# Altium footprint library ESP-12E-Blue.PcbLib: 1 footprints
Each footprint in its own frame and in the unit in brackets; x right, y up, seen from the top. Pads: shape width x height; smd on the part's side, far side on the other; paste and mask are expansions set on the pad; w line width, h text height; cw(c..) or ccw(c..) is an arc to the next point about the centre after c.
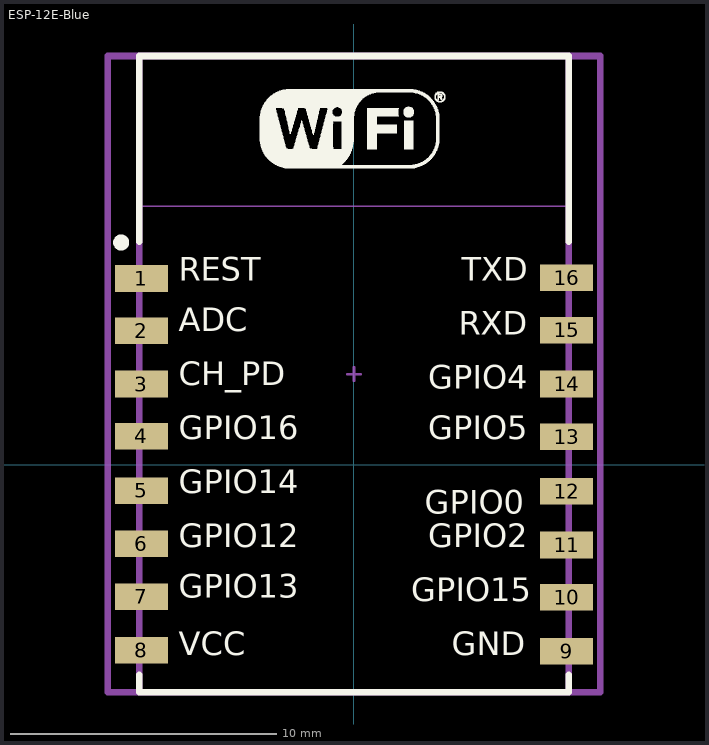
[diagram p0: the footprint, top view; thin cyan lines are the x and y axes]

## ESP-12E-Blue [mm] "ESP-12 Wi-Fi Module by AI-Thinker"
height 3.2
pads (16):
  rect 2x1 smd: 1(-8,7) 2(-8,5.03) 3(-8,3.03) 4(-8,1.06) 5(-8,-0.98) 6(-8,-2.99) 7(-8,-4.98) 8(-8,-6.99) 9(8,-7.03) 10(8,-4.99) 11(8,-3.03) 12(8,-1.01) 13(8,1.05) 14(8,3.03) 15(8,5.05) 16(8,7.03)
Top Overlay:
  drawing of 1267 lines, arcs and shapes, not listed
  text "GND" at 3.684,-7.478 h1.5
  text "GPIO15" at 2.16,-5.446 h1.5
  text "GPIO2" at 2.795,-3.414 h1.5
  text "GPIO0" at 2.667,-2.159 h1.5
  text "GPIO5" at 2.795,0.65 h1.5
  text "GPIO4" at 2.795,2.555 h1.5
  text "RXD" at 3.938,4.587 h1.5
  text "TXD" at 4.065,6.619 h1.5
  text "VCC" at -6.603,-7.478 h1.5
  text "GPIO13" at -6.603,-5.319 h1.5
  text "GPIO12" at -6.603,-3.414 h1.5
  text "GPIO14" at -6.603,-1.382 h1.5
  text "GPIO16" at -6.603,0.65 h1.5
  text "CH_PD" at -6.603,2.682 h1.5
  text "ADC" at -6.603,4.714 h1.5
  text "REST" at -6.603,6.619 h1.5
Mechanical 13:
  lines w0.051: -8.127,9.727 8.129,9.727 8.129,15.382 -8.127,15.382 -8.127,9.727
  lines w0.254: -8.084,-8.568 -8.084,15.371 8.084,15.371 8.084,-8.568 -8.084,-8.568
  text "ANTENNA AREA" at -7.873,14.874 h0.25
Mechanical 15:
  lines w0.1: -0.254,3.402 0.254,3.402 ; 0,3.148 0,3.656
  lines w0.254: -9.27,-8.568 9.272,-8.568 9.272,15.371 -9.27,15.371 -9.27,-8.568
3D body "ESP_12_V2.STEP": height 3.82, standoff -0.05, extent -8.007,-8.382 8.007,15.518
3D body "SMD0805led.STEP": height 2.32, standoff 1.89, extent 5.092,8.522 6.342,9.428